# Altium schematic symbol library HMT-2.54-1_5PM.SchLib: 1 symbol
Pins are listed as number, name and electrical type; pins without a type are passive.

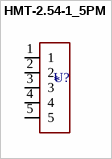
[diagram p0: symbol HMT-2.54-1_5PM]

## HMT-2.54-1_5PM
designator U?  (value not drawn)
Female Headers. -40C~+105C 1 1x5P 2.54mm 2.54mm 3.2mm 3A 5P 8.5mm Brass Gold Square Hole Through Hole Top ,P=2.54mm Female Headers ROHS; Manufacturer Part Number: HMT-2.54-1*5PM; Manufacturer: HMTCONN; Component Type: Integrated Circuits; Design Item ID: HMT-2.54-1_5PM; JLCPCB Part #: C54620386; Value: *
footprint HMT-2.54-1_5PM (HDR-TH_5P-P2.54-V-F-H3.6)
pins: 1, 2, 3, 4, 5